# Altium footprint library PCB12.PcbLib: 20 footprints (part 1 of 2)
Each footprint in its own frame and in the unit in brackets; x right, y up, seen from the top. Pads: shape width x height; smd on the part's side, far side on the other; paste and mask are expansions set on the pad; w line width, h text height; cw(c..) or ccw(c..) is an arc to the next point about the centre after c.
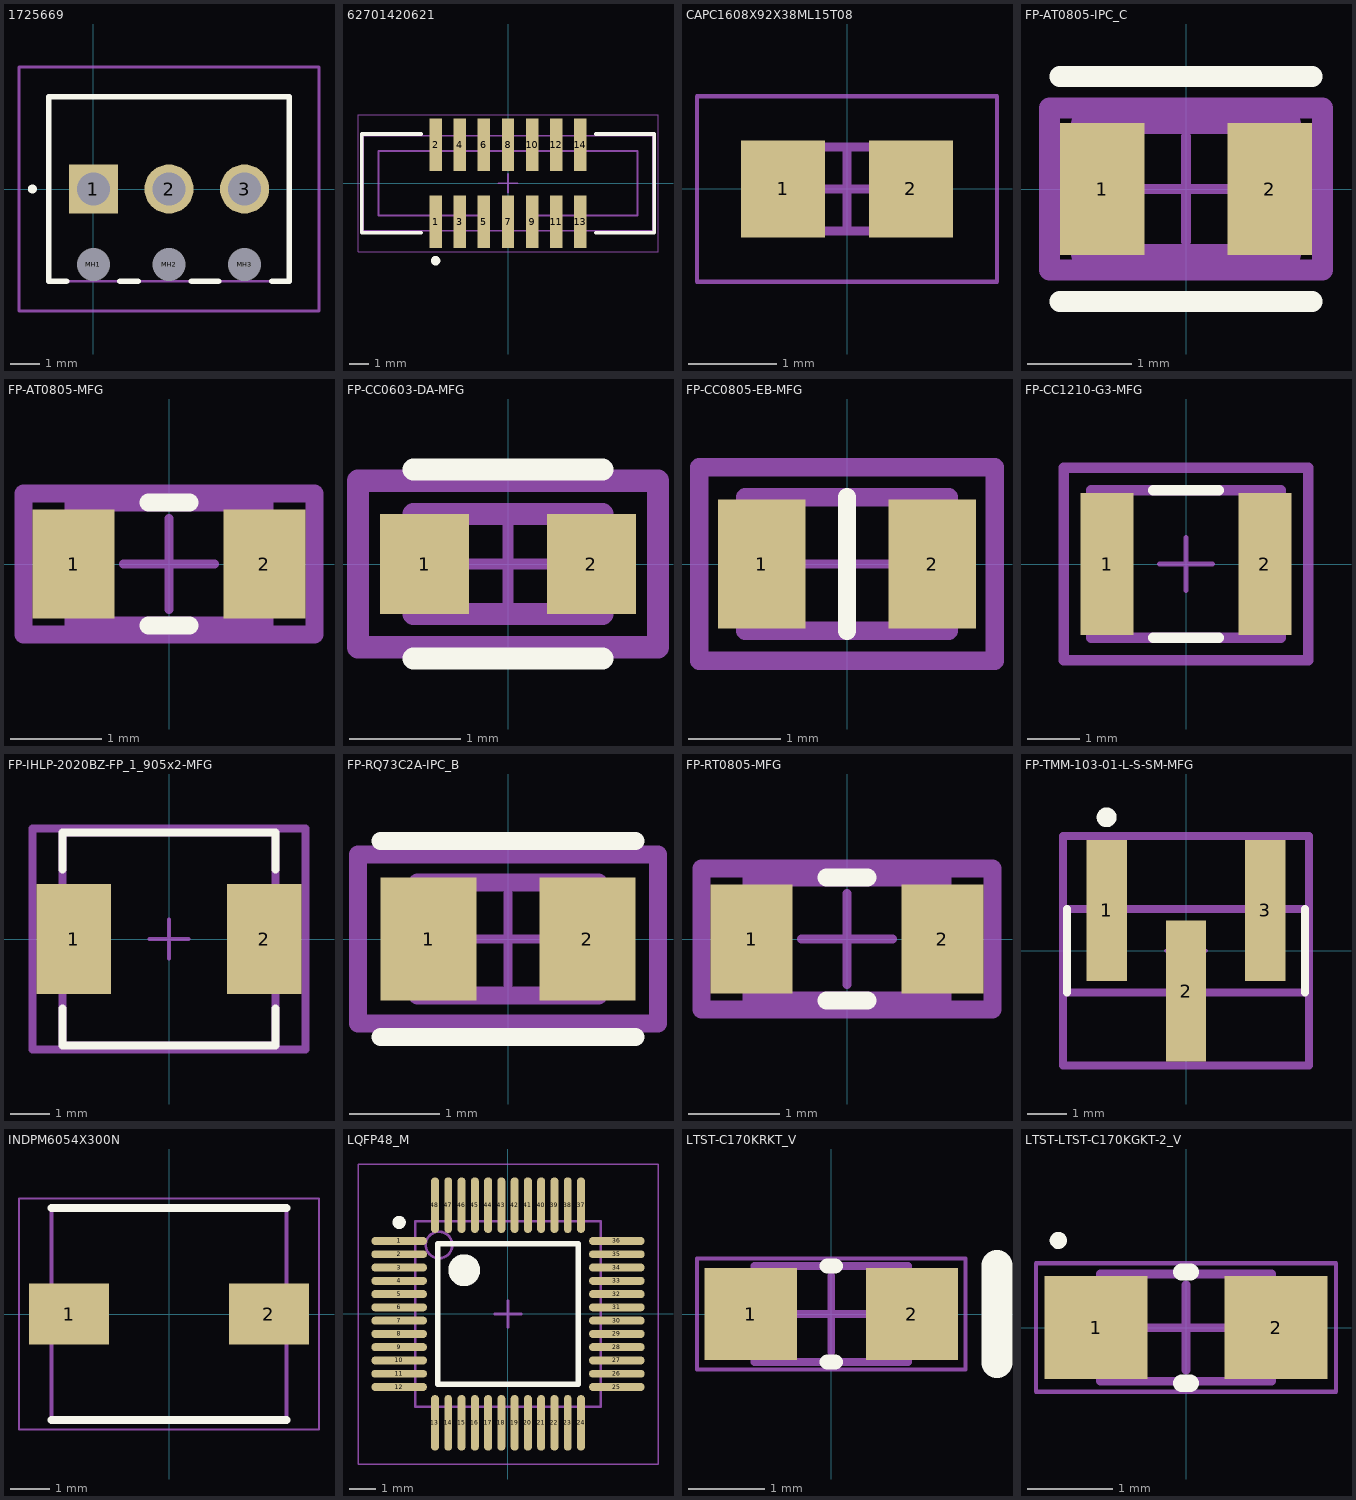
[diagram p0: the footprints below, top view; thin cyan lines are the x and y axes]

## 1725669 [mm]
pads (6):
  rect 1.65x1.65 hole 1.1: 1(0,0)
  round 1.65 hole 1.1: 2(2.54,0) 3(5.08,0)
  round 0.55 hole 1.1 unplated: MH1(0,-2.54) MH2(2.54,-2.54) MH3(5.08,-2.54)
Top Overlay:
  lines w0.2: -0.9,-3.1 -1.5,-3.1 -1.5,3.1 6.58,3.1 6.58,-3.1 6,-3.1 ; 0.9,-3.1 1.5,-3.1 ; 3.3,-3.1 4.2,-3.1 ; -2.1,0 ccw(c-2.05,0) -2,0 ; -2.1,0 cw(c-2.05,0) -2,0 ; -2.1,0 ccw(c-2.05,0) -2,0
Mechanical 13:
  lines w0.1: -1.5,-3.1 -1.5,3.1 6.58,3.1 6.58,-3.1 -1.5,-3.1
Mechanical 15:
  lines w0.1: -2.5,-4.1 -2.5,4.1 7.58,4.1 7.58,-4.1 -2.5,-4.1
3D body "1725669.stp": height 8.5, standoff -3.5, extent -1.53,-3.152 6.61,3.048

## 62701420621 [mm] "Boc Header SMT type, 14p"
height 5.3
pads (14):
  rect 0.65x2.76 smd: 1(-3.81,-2.02) 2(-3.81,2.02) 3(-2.54,-2.02) 4(-2.54,2.02) 5(-1.27,-2.02) 6(-1.27,2.02) 7(0,-2.02) 8(0,2.02) 9(1.27,-2.02) 10(1.27,2.02) 11(2.54,-2.02) 12(2.54,2.02) 13(3.81,-2.02) 14(3.81,2.02)
Top Overlay:
  circle w0.25: c-3.81,-4.076 r0.125
  lines w0.2: -4.572,-2.6 -7.695,-2.6 -7.695,2.6 -4.572,2.6 ; 4.628,-2.6 7.695,-2.6 7.695,2.6 4.628,2.6
Top 3D Body:
  lines w0.1: -1.2,-2.5 -1.2,-1.7 -6.82,-1.7 -6.82,1.7 6.82,1.7 6.82,-1.7 1.2,-1.7 1.2,-2.5 ; -7.62,-2.5 7.62,-2.5 7.62,2.5 -7.62,2.5 -7.62,-2.5
Top Courtyard:
  lines w0.05: -7.895,-3.6 -7.895,3.6 7.895,3.6 7.895,-3.6 -7.895,-3.6
Top Assembly:
  lines w0.1: -1.2,-2.5 -1.2,-1.7 -6.82,-1.7 -6.82,1.7 6.82,1.7 6.82,-1.7 1.2,-1.7 1.2,-2.5 ; -7.62,-2.5 -7.62,2.5 7.62,2.5 7.62,-2.5 -7.62,-2.5
Top Designator:
  text ".Designator" at -3.647,-0.357 h1
Top Component Center:
  lines w0.1: -0.5,0 0.5,0 ; 0,-0.5 0,0.5
3D body "62701420621.stp": height 5.2, standoff -0.04, extent -7.62,-2.8 7.62,2.8

## CAPC1608X92X38ML15T08 [mm] "Chip Capacitor, 2-Leads, Body 1.60x0.80mm, IPC Low Density"
height 0.92
pads (2):
  rect 0.95x1.1 smd: 1(-0.725,0) 2(0.725,0)
Mechanical 13:
  lines w0.1: -0.875,-0.475 -0.875,0.475 0.875,0.475 0.875,-0.475 -0.875,-0.475
Mechanical 15:
  lines w0.05: -1.7,-1.05 -1.7,1.05 1.7,1.05 1.7,-1.05 -1.7,-1.05
  lines w0.1: -0.475,0 0.475,0 ; 0,-0.475 0,0.475
3D body: height 0.92, standoff 0, extent -0.495,-0.475 0.495,0.475
3D body: height 0.92, standoff 0, extent -0.875,-0.475 -0.495,0.475
3D body: height 0.92, standoff 0, extent 0.495,-0.475 0.875,0.475

## FP-AT0805-IPC_C [mm]
pads (2):
  rect 0.808x1.262 smd paste+0 mask+0: 1(-0.802,0) 2(0.802,0)
Top Overlay:
  lines w0.2: -1.206,-1.075 1.206,-1.075 ; -1.206,1.075 1.206,1.075
Top 3D Body:
  lines w0.2: -1,-0.625 1,-0.625 1,0.625 -1,0.625 -1,-0.625
Top Courtyard:
  lines w0.2: -1.306,-0.775 1.306,-0.775 1.306,0.775 -1.306,0.775 -1.306,-0.775
Top Assembly:
  lines w0.2: -1.306,-0.775 1.306,-0.775 1.306,0.775 -1.306,0.775 -1.306,-0.775
  text ".Designator" at 0,0.188 h1
Top Component Center:
  lines w0.1: -0.5,0 0.5,0 ; 0,-0.5 0,0.5
3D body "Res_Yageo_AT0805BRA0710KL_eec.STEP": height 0.25, standoff 0, extent -1.306,-0.775 1.306,0.775

## FP-AT0805-MFG [mm]
pads (2):
  rect 0.9x1.2 smd paste+0 mask+0: 1(-1.05,0) 2(1.05,0)
Top Overlay:
  lines w0.2: -0.225,-0.675 0.225,-0.675 ; -0.225,0.675 0.225,0.675
Top 3D Body:
  lines w0.2: -1.05,-0.675 1.05,-0.675 1.05,0.675 -1.05,0.675 -1.05,-0.675
Top Courtyard:
  lines w0.2: -1.6,-0.775 1.6,-0.775 1.6,0.775 -1.6,0.775 -1.6,-0.775
Top Assembly:
  lines w0.2: -1.6,-0.775 1.6,-0.775 1.6,0.775 -1.6,0.775 -1.6,-0.775
  text ".Designator" at 0,0.188 h1
Top Component Center:
  lines w0.1: -0.5,0 0.5,0 ; 0,-0.5 0,0.5
3D body "Res_Yageo_AT0805BRA0710KL_eec.STEP": height 0.25, standoff 0, extent -1.6,-0.775 1.6,0.775

## FP-CC0603-DA-MFG [mm]
pads (2):
  rect 0.8x0.9 smd paste+0 mask+0: 1(-0.75,0) 2(0.75,0)
Top Overlay:
  lines w0.2: -0.85,-0.85 0.85,-0.85 ; -0.85,0.85 0.85,0.85
Top 3D Body:
  lines w0.2: -0.85,-0.45 0.85,-0.45 0.85,0.45 -0.85,0.45 -0.85,-0.45
Top Courtyard:
  lines w0.2: -1.35,-0.75 1.35,-0.75 1.35,0.75 -1.35,0.75 -1.35,-0.75
Top Assembly:
  lines w0.2: -1.35,-0.75 1.35,-0.75 1.35,0.75 -1.35,0.75 -1.35,-0.75
  text ".Designator" at 0,0.188 h1
Top Component Center:
  lines w0.1: -0.5,0 0.5,0 ; 0,-0.5 0,0.5
3D body "Cap_YAGEO_CC0603KRX7R9BB271_eec.STEP": height 0.25, standoff 0, extent -1.35,-0.75 1.35,0.75

## FP-CC0805-EB-MFG [mm]
pads (2):
  rect 0.95x1.4 smd paste+0 mask+0: 1(-0.925,0) 2(0.925,0)
Top Overlay:
  lines w0.2: 0,-0.725 0,0.725
Top 3D Body:
  lines w0.2: -1.1,-0.725 1.1,-0.725 1.1,0.725 -1.1,0.725 -1.1,-0.725
Top Courtyard:
  lines w0.2: -1.6,-1.05 1.6,-1.05 1.6,1.05 -1.6,1.05 -1.6,-1.05
Top Assembly:
  lines w0.2: -1.6,-1.05 1.6,-1.05 1.6,1.05 -1.6,1.05 -1.6,-1.05
  text ".Designator" at 0,-0.001 h1
Top Component Center:
  lines w0.1: -0.5,0 0.5,0 ; 0,-0.5 0,0.5
3D body "Cap_Yageo_CC0805KKX7RYBB104_eec.STEP": height 0.25, standoff 0, extent -1.6,-1.05 1.6,1.05

## FP-CC1210-G3-MFG [mm]
pads (2):
  rect 1x2.7 smd paste+0 mask+0: 1(-1.5,0) 2(1.5,0)
Top Overlay:
  lines w0.2: -0.625,-1.4 0.625,-1.4 ; -0.625,1.4 0.625,1.4
Top 3D Body:
  lines w0.2: -1.8,-1.4 -1.8,1.4 1.8,1.4 1.8,-1.4 -1.8,-1.4
Top Courtyard:
  lines w0.2: -2.325,-1.825 -2.325,1.825 2.325,1.825 2.325,-1.825 -2.325,-1.825
Top Assembly:
  lines w0.2: -2.325,-1.825 -2.325,1.825 2.325,1.825 2.325,-1.825 -2.325,-1.825
  text ".Designator" at 0,0.188 h1
Top Component Center:
  lines w0.1: -0.5,0 0.5,0 ; 0,-0.5 0,0.5
3D body "Cap_Yageo_CC1210KKX7R8BB225_eec.STEP": height 0.25, standoff 0, extent -2.325,-1.825 2.325,1.825

## FP-IHLP-2020BZ-FP_1_905x2-MFG [mm]
pads (2):
  rect 1.905x2.79 smd paste+0 mask+0: 1(-2.425,0) 2(2.425,0)
Top Overlay:
  lines w0.2: -2.717,-1.77 -2.717,-2.717 2.717,-2.717 2.717,-1.77 ; -2.717,1.77 -2.717,2.717 2.717,2.717 2.717,1.77
Top 3D Body:
  lines w0.2: -2.717,-2.717 2.717,-2.717 2.717,2.717 -2.717,2.717 -2.717,-2.717
Top Courtyard:
  lines w0.2: -3.478,-2.817 3.478,-2.817 3.478,2.817 -3.478,2.817 -3.478,-2.817
Top Assembly:
  lines w0.2: -3.478,-2.817 3.478,-2.817 3.478,2.817 -3.478,2.817 -3.478,-2.817
  text ".Designator" at 0,0.188 h1
Top Component Center:
  lines w0.1: -0.5,0 0.5,0 ; 0,-0.5 0,0.5
3D body "Ind_Vishay_IHLP2020BZER100M11_eec.STEP": height 0.25, standoff 0, extent -3.478,-2.817 3.478,2.817

## FP-RQ73C2A-IPC_B [mm]
pads (2):
  rect 1.058x1.362 smd paste+0 mask+0: 1(-0.877,0) 2(0.877,0)
Top Overlay:
  lines w0.2: -1.406,-1.081 1.406,-1.081 ; -1.406,1.081 1.406,1.081
Top 3D Body:
  lines w0.2: -1,-0.625 1,-0.625 1,0.625 -1,0.625 -1,-0.625
Top Courtyard:
  lines w0.2: -1.656,-0.931 1.656,-0.931 1.656,0.931 -1.656,0.931 -1.656,-0.931
Top Assembly:
  lines w0.2: -1.656,-0.931 1.656,-0.931 1.656,0.931 -1.656,0.931 -1.656,-0.931
  text ".Designator" at 0,0.188 h1
Top Component Center:
  lines w0.1: -0.5,0 0.5,0 ; 0,-0.5 0,0.5
3D body "Res_TE_Connectivity_RQ73C2A10R7BTD_eec.STEP": height 0.25, standoff 0, extent -1.656,-0.931 1.656,0.931

## FP-RT0805-MFG [mm]
pads (2):
  rect 0.9x1.2 smd paste+0 mask+0: 1(-1.05,0) 2(1.05,0)
Top Overlay:
  lines w0.2: -0.225,-0.675 0.225,-0.675 ; -0.225,0.675 0.225,0.675
Top 3D Body:
  lines w0.2: -1.05,-0.675 1.05,-0.675 1.05,0.675 -1.05,0.675 -1.05,-0.675
Top Courtyard:
  lines w0.2: -1.6,-0.775 1.6,-0.775 1.6,0.775 -1.6,0.775 -1.6,-0.775
Top Assembly:
  lines w0.2: -1.6,-0.775 1.6,-0.775 1.6,0.775 -1.6,0.775 -1.6,-0.775
  text ".Designator" at 0,0.188 h1
Top Component Center:
  lines w0.1: -0.5,0 0.5,0 ; 0,-0.5 0,0.5
3D body "Res_Yageo_RT0805WRB07165RL_eec.STEP": height 0.25, standoff 0, extent -1.6,-0.775 1.6,0.775

## FP-TMM-103-01-L-S-SM-MFG [mm]
pads (3):
  rect 1.02x3.56 smd paste+0 mask+0: 1(-2,1.015) 2(0,-1.015) 3(2,1.015)
Top Overlay:
  circle w0.25: c-2,3.363 r0.125
  lines w0.2: -3,-1.054 -3,1.054 ; 3,-1.054 3,1.054
Top 3D Body:
  lines w0.2: -3,-1.054 3,-1.054 3,1.054 -3,1.054 -3,-1.054
Top Courtyard:
  lines w0.2: -3.1,-2.895 3.1,-2.895 3.1,2.895 -3.1,2.895 -3.1,-2.895
Top Assembly:
  lines w0.2: -3.1,-2.895 3.1,-2.895 3.1,2.895 -3.1,2.895 -3.1,-2.895
  text ".Designator" at 0,-0.001 h1
Top Component Center:
  lines w0.1: -0.5,0 0.5,0 ; 0,-0.5 0,0.5
3D body "Conn_Samtec_TMM-103-01-L-S-SM_eec.STEP": height 0.25, standoff 0, extent -3.1,-2.895 3.1,2.895

## INDPM6054X300N [mm]
pads (2):
  rect 2.05x1.55 smd: 1(-2.55,0) 2(2.55,0)
Top Overlay:
  lines w0.2: -3,-2.7 3,-2.7 ; -3,2.7 3,2.7
Mechanical 13:
  lines w0.1: -3,-2.7 -3,2.7 3,2.7 3,-2.7 -3,-2.7
Mechanical 15:
  lines w0.05: -3.825,-2.95 -3.825,2.95 3.825,2.95 3.825,-2.95 -3.825,-2.95
3D body "PA4340.332NLT.stp": height 3, standoff 0, extent -3,-2.7 3,2.7

## LQFP48_M [mm] "Thin QFP, 48-Leads, Body 7x7mm, Pitch 0.5mm, IPC Low Density"
height 1.6
pads (48):
  oval 2.1x0.3 smd: 1(-4.1,2.75) 2(-4.1,2.25) 3(-4.1,1.75) 4(-4.1,1.25) 5(-4.1,0.75) 6(-4.1,0.25) 7(-4.1,-0.25) 8(-4.1,-0.75) 9(-4.1,-1.25) 10(-4.1,-1.75) 11(-4.1,-2.25) 12(-4.1,-2.75) 25(4.1,-2.75) 26(4.1,-2.25) 27(4.1,-1.75) 28(4.1,-1.25) 29(4.1,-0.75) 30(4.1,-0.25) 31(4.1,0.25) 32(4.1,0.75) 33(4.1,1.25) 34(4.1,1.75) 35(4.1,2.25) 36(4.1,2.75)
  oval 0.3x2.1 smd: 13(-2.75,-4.1) 14(-2.25,-4.1) 15(-1.75,-4.1) 16(-1.25,-4.1) 17(-0.75,-4.1) 18(-0.25,-4.1) 19(0.25,-4.1) 20(0.75,-4.1) 21(1.25,-4.1) 22(1.75,-4.1) 23(2.25,-4.1) 24(2.75,-4.1) 37(2.75,4.1) 38(2.25,4.1) 39(1.75,4.1) 40(1.25,4.1) 41(0.75,4.1) 42(0.25,4.1) 43(-0.25,4.1) 44(-0.75,4.1) 45(-1.25,4.1) 46(-1.75,4.1) 47(-2.25,4.1) 48(-2.75,4.1)
Top Overlay:
  circle w0.6: c-1.65,1.65 r0.3
  circle w0.25: c-4.1,3.45 r0.125
  lines w0.2: -2.65,-2.65 2.65,-2.65 2.65,2.65 -2.65,2.65 -2.65,-2.65
Mechanical 13:
  circle w0.1: c-2.6,2.6 r0.5
  lines w0.1: -3.5,-3.5 3.5,-3.5 3.5,3.5 -3.5,3.5 -3.5,-3.5
Mechanical 15:
  lines w0.05: -5.65,-5.65 5.65,-5.65 5.65,5.65 -5.65,5.65 -5.65,-5.65
  lines w0.1: -0.5,0 0.5,0 ; 0,-0.5 0,0.5
3D body: height 1.6, standoff 0, extent -3.5,-3.5 3.5,3.5

## LTST-C170KRKT_V [mm] "SMD, 2-Leads, Body 2x1.25mm"
height 1.2
pads (2):
  rect 1.2x1.2 smd: 1(-1.05,0) 2(1.05,0)
Top Overlay:
  lines w0.2: -0.051,-0.625 0.051,-0.625 ; -0.051,0.625 0.051,0.625
  lines w0.4: 2.159,-0.635 2.159,0.635
Mechanical 13:
  lines w0.1: -0.7,-0.625 -0.7,0.625 ; 0.7,-0.625 0.7,0.625 ; -1,-0.625 -1,0.625 1,0.625 1,-0.625 -1,-0.625
Mechanical 15:
  lines w0.05: -1.75,-0.725 1.75,-0.725 1.75,0.725 -1.75,0.725 -1.75,-0.725
  lines w0.1: -0.5,0 0.5,0 ; 0,-0.5 0,0.5
3D body: height 0.5, standoff 0, extent -1,-0.625 1,0.625
3D body: height 1.2, standoff 0.5, extent -0.7,-0.625 0.7,0.625

## LTST-LTST-C170KGKT-2_V [mm] "SMD, 2-Leads, Body 2.00x1.25mm"
height 1.1
pads (2):
  rect 1.2x1.2 smd: 1(-1.05,0) 2(1.05,0)
Top Overlay:
  circle w0.1: c-1.49,1.016 r0.05
  lines w0.2: -0.05,-0.65 0.05,-0.65 ; -0.05,0.65 0.05,0.65
Mechanical 13:
  rectangle: -1,-0.625 -0.731,0.625
  lines w0.1: -1,-0.625 1,-0.625 1,0.625 -1,0.625 -1,-0.625
Mechanical 15:
  lines w0.05: -1.75,-0.75 1.75,-0.75 1.75,0.75 -1.75,0.75 -1.75,-0.75
  lines w0.1: -0.5,0 0.5,0 ; 0,-0.5 0,0.5
3D body: height 1.1, standoff 0.5, extent -0.7,-0.625 0.7,0.625
3D body: height 0.5, standoff 0, extent -1,-0.625 1,0.625